# Altium schematic symbol library Schematic_Diode.SchLib: 7 symbols
Pins are listed as number, name and electrical type; pins without a type are passive.

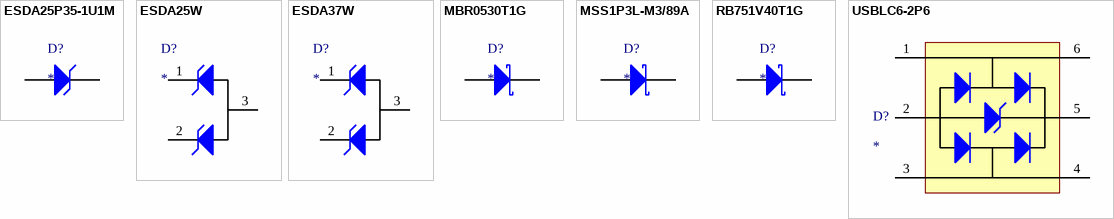
[diagram p0: symbols ESDA25P35-1U1M to USBLC6-2P6]

## ESDA25P35-1U1M
designator D?
STMICROELECTRONICS - ESDA25P35-1U1M - ESD Protection Device, Unidirectional, 41 V, QFN, 2 Pins; Number of Unidirectional Channels: 1; Reverse Standoff Voltage: 22V; Min Breakdown Voltage: 23.3V; Clamping Voltage: 41V; Peak Pulse Current: 35A; Peak Pulse Power: 1.4kW; Power Line Protection: No; Supplier 1: Digi-Key; Manufacturer: STMicroelectronics; Manufacturer Part Number: ESDA25P35-1U1M; RoHS: No; Category: TVS Diodes; Stock 1: 4234; Pricing 1: 1=0.45000, 10=0.36200, 25=0.33120, 100=0.20790, 250=0.20560, 500=0.19250, 1000=0.13090, 2500=0.12551 (USD); Mount: Surface Mount; Case/Package: 1610; Number of Pins: 2; Min Operating Temperature: -55°C; Max Operating Temperature: 150°C; Composition: Zener; Packaging: Tape and Reel; ComponentLink1URL: http://www.farnell.com/datasheets/2236209.pdf?src-supplier=Farnell; ComponentLink1Description: http://www.farnell.com/datasheets/2236209.pdf?src-supplier=Farnell; ComponentLink2URL: http://www.st.com/content/ccc/resource/technical/document/datasheet/group3/e4/43/53/b9/4e/8a/40/bb/DM00312034/files/DM00312034.pdf/jcr:content/translations/en.DM00312034.pdf?src-supplier=Digi-Key; ComponentLink2Description: http://www.st.com/content/ccc/resource/technical/document/datasheet/group3/e4/43/53/b9/4e/8a/40/bb/DM00312034/files/DM00312034.pdf/jcr:content/translations/en.DM00312034.pdf?src-supplier=Digi-Key; ComponentLink3URL: http://www.farnell.com/datasheets/2236209.pdf?src-supplier=Element14; ComponentLink3Description: http://www.farnell.com/datasheets/2236209.pdf?src-supplier=Element14; ComponentLink4URL: http://www.farnell.com/datasheets/2236209.pdf?src-supplier=Newark; ComponentLink4Description: http://www.farnell.com/datasheets/2236209.pdf?src-supplier=Newark
footprint DFN105P160X60-2N (DFN, 2-Leads, Body 1.00x1.60mm, Pitch 1.05mm, IPC Medium Density)
pins: 1 K, 2 A

## ESDA25W
designator D?
STMICROELECTRONICS - ESDA25W - ESD Protection Device, Array, SOT-323, 3 Pins, 1.2 V, 400 W, ESDA2 Series; Working Voltage: 24V; Direction: Unidirectional; Number of Channels: 2; Min Breakdown Voltage: 25V; Peak Pulse Power: 400W; Power Line Protection: No; Leakage Current: 1uA; ESD Protection: Yes; Test Current: 1mA; Max Breakdown Voltage: 30V; Element Configuration: Common Anode; Capacitance: 65pF; Operating Supply Voltage: 1.2V; Supplier 1: Digi-Key; Manufacturer: STMicroelectronics; Manufacturer Part Number: ESDA25W; RoHS: Yes; Category: Integrated Circuits (ICs); Pricing 1: 1=0.40000, 10=0.32600, 25=0.29800, 100=0.18710, 250=0.18504, 500=0.17326, 1000=0.11781 (USD); Mount: Surface Mount; Case/Package: SOT-323; Number of Pins: 3; Min Operating Temperature: -40°C; Max Operating Temperature: 125°C; Composition: Zener; Number of Unidirectional Channels: 2; Reverse Standoff Voltage: 24V; Polarity: Unidirectional; Breakdown Voltage: 25V; Termination: SMD/SMT; Max Reverse Leakage Current: 1uA; Voltage Rating (DC): 25V; Package Quantity: 1; Packaging: Tape and Reel; Number of Elements: 2; Reverse Breakdown Voltage: 25V; Max Power Dissipation: 400W; Length: 2mm; Height: 1.1mm; Depth: 1.25mm; Width: 1.25mm; Radiation Hardening: No; Lead Free: Lead Free; REACH SVHC: No SVHC; ComponentLink1URL: https://datasheet.ciiva.com/15143/getdatasheetpartid-144665-15143734.pdf?src-supplier=Verical; ComponentLink1Description: https://datasheet.ciiva.com/15143/getdatasheetpartid-144665-15143734.pdf?src-supplier=Verical; ComponentLink2URL: https://datasheet.ciiva.com/16216/cd00064033-16216903.pdf?src-supplier=Future+Electronics; ComponentLink2Description: https://datasheet.ciiva.com/16216/cd00064033-16216903.pdf?src-supplier=Future+Electronics; ComponentLink3URL: https://datasheet.ciiva.com/26787/esda25w-26787589.pdf?src-supplier=IIIC; ComponentLink3Description: https://datasheet.ciiva.com/26787/esda25w-26787589.pdf?src-supplier=IIIC; ComponentLink4URL: https://datasheet.ciiva.com/338/cd00064033-338272.pdf?src-supplier=Digi-Key; ComponentLink4Description: https://datasheet.ciiva.com/338/cd00064033-338272.pdf?src-supplier=Digi-Key; ComponentLink5URL: https://datasheet.ciiva.com/338/cd00064033-338273.pdf?src-supplier=Digi-Key; ComponentLink5Description: https://datasheet.ciiva.com/338/cd00064033-338273.pdf?src-supplier=Digi-Key; ComponentLink6URL: https://datasheet.ciiva.com/4510/cd00064033-4510575.pdf?src-supplier=Mouser; ComponentLink6Description: https://datasheet.ciiva.com/4510/cd00064033-4510575.pdf?src-supplier=Mouser; ComponentLink7URL: https://datasheet.ciiva.com/28474/1671027-28474846.pdf?src-supplier=Element14; ComponentLink7Description: https://datasheet.ciiva.com/28474/1671027-28474846.pdf?src-supplier=Element14; ComponentLink8URL: https://datasheet.ciiva.com/338/cd00064033-338271.pdf?src-supplier=Digi-Key; ComponentLink8Description: https://datasheet.ciiva.com/338/cd00064033-338271.pdf?src-supplier=Digi-Key
footprint SOT65P210X110-3N (SOT23, 3-Leads, Body 2.00x2.10mm, Pitch 0.65mm, IPC Medium Density)
pins: 1 K1 "Diode 1", 2 K2 "Diode 2", 3 A "common anode"

## ESDA37W
designator D?
STMICROELECTRONICS - ESDA37W - ESD PROTECTION DIODE, SOT-323; Supplier 1: Digi-Key; Manufacturer: STMicroelectronics; Manufacturer Part Number: ESDA37W; RoHS: No; Stock 1: 12640; Pricing 1: 1=0.47000, 10=0.35200, 25=0.30800, 100=0.16720, 250=0.16632, 500=0.13640, 1000=0.10120 (USD); ComponentLink1URL: http://www.farnell.com/datasheets/2719482.pdf?src-supplier=Farnell; ComponentLink1Description: http://www.farnell.com/datasheets/2719482.pdf?src-supplier=Farnell; ComponentLink2URL: http://www.st.com/resource/en/datasheet/esda37w.pdf?src-supplier=Digi-Key; ComponentLink2Description: http://www.st.com/resource/en/datasheet/esda37w.pdf?src-supplier=Digi-Key; ComponentLink3URL: http://www.farnell.com/datasheets/2719482.pdf?src-supplier=Newark; ComponentLink3Description: http://www.farnell.com/datasheets/2719482.pdf?src-supplier=Newark
footprint SOT65P210X110-3N (SOT23, 3-Leads, Body 2.00x2.10mm, Pitch 0.65mm, IPC Medium Density)
pins: 1 K1 "Diode 1", 2 K2 "Diode 2", 3 A "common anode"

## MBR0530T1G
designator D?
Diode, Schottky Barrier, Vr 30V, If 0.5A, Pkg SOD-123, Vf 0.43V, Tj +125degc, Cs 5.5A; Manufacturer: onsemi; Manufacturer Part Number: MBR0530T1G; Forward Current: 500mA; Max Reverse Leakage Current: 130uA; Forward Voltage: 430mV; Polarity: Standard; Supplier 1: Digikey; RoHS: Yes; Category: Schottky Diodes; Stock 1: 129549; Pricing 1: 1=0.17, 10=0.135, 100=0.1133, 500=0.09364, 1000=0.08299, 3000=0.0606, 6000=0.056, 9000=0.0476, 15000=0.04681, 21000=0.04664, 30000=0.04597, 75000=0.04559, 150000=0.04261 (USD); Mounting Technology: Surface Mount; Case/Package: SOD; Pins: 2; Min Operating Temperature: -65°C; Max Operating Temperature: 125°C; Max Repetitive Reverse Voltage (Vrrm): 30V; Voltage: 30V; Package Quantity: 3000; Packaging: Tape and Reel; Max Reverse Voltage (DC): 30V; Average Rectified Current: 500mA; Max Surge Current: 5.5A; Max Forward Surge Current (Ifsm): 5.5A; Max Reverse Current: 130uA; Peak Non-Repetitive Surge Current: 5.5A; Series: -; Breakdown Voltage: 30V; Current Rating: 500mA; Voltage Rating (DC): 30V; Length: 2.69mm; Width: 1.6mm; Height: 1.12mm; Radiation Hardening: No; RoHS Compliant: Yes; Reach SVHC Compliant: No; Lead Free: Lead Free; ComponentLink1URL: https://datasheet.ciiva.com/5763/85890-5763210.pdf?src-supplier=Farnell; ComponentLink1Description: https://datasheet.ciiva.com/5763/85890-5763210.pdf?src-supplier=Farnell; ComponentLink2URL: https://datasheet.ciiva.com/14168/sz600926-e-14168053.pdf?src-supplier=Distrelec; ComponentLink2Description: https://datasheet.ciiva.com/14168/sz600926-e-14168053.pdf?src-supplier=Distrelec; ComponentLink3URL: https://datasheet.ciiva.com/22659/1708258-22659024.pdf?src-supplier=Element14; ComponentLink3Description: https://datasheet.ciiva.com/22659/1708258-22659024.pdf?src-supplier=Element14; ComponentLink4URL: https://datasheet.ciiva.com/7962/85890-7962702.pdf?src-supplier=Element14; ComponentLink4Description: https://datasheet.ciiva.com/7962/85890-7962702.pdf?src-supplier=Element14; ComponentLink5URL: https://datasheet.ciiva.com/7962/85890-7962700.pdf?src-supplier=Element14; ComponentLink5Description: https://datasheet.ciiva.com/7962/85890-7962700.pdf?src-supplier=Element14; ComponentLink6URL: https://datasheet.ciiva.com/7962/85890-7962701.pdf?src-supplier=Element14; ComponentLink6Description: https://datasheet.ciiva.com/7962/85890-7962701.pdf?src-supplier=Element14; ComponentLink7URL: https://datasheet.ciiva.com/14560/70099496-14560951.pdf?src-supplier=Allied+Electronics; ComponentLink7Description: https://datasheet.ciiva.com/14560/70099496-14560951.pdf?src-supplier=Allied+Electronics; ComponentLink8URL: https://datasheet.ciiva.com/8300/mbr0530t1-d-8300038.pdf?src-supplier=Avnet; ComponentLink8Description: https://datasheet.ciiva.com/8300/mbr0530t1-d-8300038.pdf?src-supplier=Avnet
footprint SODFL371X135-2N (SODFL, 2-Leads, Body 1.60x3.71mm, IPC Medium Density)
pins: 1 K, 2 A

## MSS1P3L-M3/89A
designator D?
DIODE SCHOTTKY 30V 1A MICROSMP; Manufacturer: Vishay Semiconductors; Manufacturer Part Number: MSS1P3L-M3/89A; Forward Voltage: 500mV; Element Configuration: Single; Peak Non-Repetitive Surge Current: 25A; Peak Reverse Current: 250uA; Supplier 1: Digi-Key; Stock 1: 323215; Pricing 1: 1=0.41000, 10=0.30700, 100=0.14600, 500=0.11910, 1000=0.08837 (USD); RoHS: Yes; Mount: Surface Mount; Number of Pins: 2; Min Operating Temperature: -55°C; Max Operating Temperature: 150°C; Packaging: Tape and Reel; Forward Current: 1A; Average Rectified Current: 1A; Max Repetitive Reverse Voltage (Vrrm): 30V; Max Reverse Voltage (DC): 30V; Max Surge Current: 25A; Package Quantity: 1; Max Reverse Leakage Current: 250uA; Max Forward Surge Current (Ifsm): 25A; Length: 0.09inch; Height: 0.018inch; Width: 0.055inch; Radiation Hardening: No; REACH SVHC: Unknown; Lead Free: Lead Free; ComponentLink1URL: https://datasheet.ciiva.com/23642/mss1p3l-23642464.pdf?src-supplier=Newark; ComponentLink1Description: https://datasheet.ciiva.com/23642/mss1p3l-23642464.pdf?src-supplier=Newark; ComponentLink2URL: https://datasheet.ciiva.com/917/mss1p3l-917251.pdf?src-supplier=Digi-Key; ComponentLink2Description: https://datasheet.ciiva.com/917/mss1p3l-917251.pdf?src-supplier=Digi-Key; ComponentLink3URL: https://datasheet.ciiva.com/917/mss1p3l-917252.pdf?src-supplier=Digi-Key; ComponentLink3Description: https://datasheet.ciiva.com/917/mss1p3l-917252.pdf?src-supplier=Digi-Key; ComponentLink4URL: https://datasheet.ciiva.com/917/mss1p3l-917253.pdf?src-supplier=Digi-Key; ComponentLink4Description: https://datasheet.ciiva.com/917/mss1p3l-917253.pdf?src-supplier=Digi-Key; ComponentLink5URL: https://datasheet.ciiva.com/25934/mss1p3l-25934805.pdf?src-supplier=Avnet+Europe; ComponentLink5Description: https://datasheet.ciiva.com/25934/mss1p3l-25934805.pdf?src-supplier=Avnet+Europe; ComponentLink6URL: https://datasheet.ciiva.com/16464/mss1p3l-16464118.pdf?src-supplier=Future+Electronics; ComponentLink6Description: https://datasheet.ciiva.com/16464/mss1p3l-16464118.pdf?src-supplier=Future+Electronics; ComponentLink7URL: https://datasheet.ciiva.com/8290/mss1p3l-8290391.pdf?src-supplier=Avnet; ComponentLink7Description: https://datasheet.ciiva.com/8290/mss1p3l-8290391.pdf?src-supplier=Avnet; ComponentLink8URL: https://datasheet.ciiva.com/7962/mss1p3l-7962344.pdf?src-supplier=Element14; ComponentLink8Description: https://datasheet.ciiva.com/7962/mss1p3l-7962344.pdf?src-supplier=Element14
footprint DO-219AD (DIODE SCHOTTKY 30V 1A MICROSMP)
pins: 1 A, 2 K

## RB751V40T1G
designator D?
Diode Schottky 40V 0.03A 2-Pin SOD-323 T/R - Product that comes on tape, but is not reeled; Manufacturer: onsemi; Manufacturer Part Number: RB751V40T1G; Forward Current: 30mA; Max Reverse Current: 500nA; Forward Voltage: 370mV; Max Repetitive Reverse Voltage (Vrrm): 30V; Max Forward Surge Current (Ifsm): 500mA; Polarity: Standard; Value: 2pF; Power Dissipation: 200mW; Element Configuration: Single; Supplier 1: Digikey; RoHS: Yes; Category: Schottky Diodes; Stock 1: 107053; Pricing 1: 1=0.12, 10=0.08, 100=0.0663, 500=0.0482, 1000=0.04232, 3000=0.02323, 6000=0.02, 9000=0.01927, 15000=0.01914, 21000=0.01906, 30000=0.01898, 300000=0.01845 (USD); Case/Package: SOD-323-2; Pins: 2; Min Operating Temperature: -55°C; Max Operating Temperature: 150°C; Packaging: Tape and Reel; Package Quantity: 3000; Average Rectified Current: 30mA; Voltage Rating (DC): 40V; Current Rating: 30mA; Output Current: 30mA; Max Reverse Voltage (DC): 30V; Series: -; Max Surge Current: 500mA; Max Reverse Leakage Current: 500nA; Peak Non-Repetitive Surge Current: 500mA; Breakdown Voltage: 30V; Reverse Voltage: 30V; Length: 1.7mm; Width: 1.25mm; Height: 0.9mm; Radiation Hardening: No; Lead Free: Lead Free; Reach SVHC Compliant: No; RoHS Compliant: Yes; ComponentLink1URL: https://datasheet.ciiva.com/8053/rb751v40t1-d-8053696.pdf?src-supplier=Element14; ComponentLink1Description: https://datasheet.ciiva.com/8053/rb751v40t1-d-8053696.pdf?src-supplier=Element14; ComponentLink2URL: https://datasheet.ciiva.com/15144/getdatasheetpartid-87198-15144606.pdf?src-supplier=Verical; ComponentLink2Description: https://datasheet.ciiva.com/15144/getdatasheetpartid-87198-15144606.pdf?src-supplier=Verical; ComponentLink3URL: https://datasheet.ciiva.com/8053/rb751v40t1-d-8053695.pdf?src-supplier=Element14; ComponentLink3Description: https://datasheet.ciiva.com/8053/rb751v40t1-d-8053695.pdf?src-supplier=Element14; ComponentLink4URL: https://datasheet.ciiva.com/8292/rb751v40t1-d-8292413.pdf?src-supplier=Avnet; ComponentLink4Description: https://datasheet.ciiva.com/8292/rb751v40t1-d-8292413.pdf?src-supplier=Avnet; ComponentLink5URL: https://datasheet.ciiva.com/16481/rb751v40t1-d-16481045.pdf?src-supplier=Future+Electronics; ComponentLink5Description: https://datasheet.ciiva.com/16481/rb751v40t1-d-16481045.pdf?src-supplier=Future+Electronics
footprint DIOM2512X10N (Molded Diode, 2-Leads, Body 2.50x1.25mm, IPC Medium Density)
pins: 1 K, 2 A

## USBLC6-2P6
designator D?
ESD Suppressors / TVS Diodes High Speed Interface Protection Low Cap; Manufacturer: STMicroelectronics; Manufacturer Part Number: USBLC6-2P6; Breakdown Voltage: 6V; Value: 2.5pF; Clamping Voltage: 17V; Direction: Unidirectional; Element Configuration: Dual; ESD Protection: Yes; Forward Voltage: 1.1V; Leakage Current: 150nA; Max Junction Temperature (Tj): 125°C; Max Repetitive Reverse Voltage (Vrrm): 5.25V; Number of Bidirectional Channels: 2; Number of Elements: 1; Peak Pulse Current: 5A; Reverse Standoff Voltage: 5V; Test Current: 1mA; Supplier 1: DigiKey; RoHS: Compliant; Category: TVS Diodes; Stock 1: 132285; Pricing 1: 1=0.51, 10=0.323, 100=0.202, 500=0.158, 1000=0.143, 3000=0.11, 6000=0.098 (USD); Case/Package: SOT-666; China RoHS: Compliant; Contact Plating: Tin; Depth: 1.3mm; Height: 600µm; Lead Free: Lead Free; Length: 1.7mm; Lifecycle Status: Production; Max Breakdown Voltage: 6V; Max Operating Temperature: 125°C; Max Reverse Leakage Current: 150nA; Min Breakdown Voltage: 6V; Min Operating Temperature: -40°C; Mounting Technology: Surface Mount; Number of Channels: 2; Pins: 6; Number of Terminals: 6; Peak Reverse Current: 150nA; Polarity: Unidirectional; Power Line Protection: Yes; Radiation Hardening: No; REACH SVHC: Yes; Reverse Breakdown Voltage: 6V; Schedule B: 8536300000, 8536300000|8536300000|8536300000|8536300000|8536300000; Termination: SMD/SMT; Width: 1.3mm; Working Voltage: 5V; ComponentLink1URL: https://datasheet.octopart.com:443/USBLC6-2P6-STMicroelectronics-datasheet-10412581.pdf?src-supplier=element14+APAC; ComponentLink1Description: https://datasheet.octopart.com:443/USBLC6-2P6-STMicroelectronics-datasheet-10412581.pdf?src-supplier=element14+APAC; ComponentLink2URL: https://datasheet.octopart.com:443/USBLC6-2P6-STMicroelectronics-datasheet-525477.pdf?src-supplier=Factory+Futures; ComponentLink2Description: https://datasheet.octopart.com:443/USBLC6-2P6-STMicroelectronics-datasheet-525477.pdf?src-supplier=Factory+Futures; ComponentLink3URL: https://datasheet.octopart.com:443/USBLC6-2P6-STMicroelectronics-datasheet-181961833.pdf?src-supplier=Newark; ComponentLink3Description: https://datasheet.octopart.com:443/USBLC6-2P6-STMicroelectronics-datasheet-181961833.pdf?src-supplier=Newark; ComponentLink4URL: https://datasheet.octopart.com:443/USBLC6-2P6-STMicroelectronics-datasheet-46285.pdf?src-supplier=Farnell; ComponentLink4Description: https://datasheet.octopart.com:443/USBLC6-2P6-STMicroelectronics-datasheet-46285.pdf?src-supplier=Farnell; ComponentLink5URL: https://datasheet.octopart.com:443/USBLC6-2P6-STMicroelectronics-datasheet-14050643.pdf?src-supplier=iiiC; ComponentLink5Description: https://datasheet.octopart.com:443/USBLC6-2P6-STMicroelectronics-datasheet-14050643.pdf?src-supplier=iiiC; ComponentLink6URL: https://datasheet.octopart.com:443/USBLC6-2P6-STMicroelectronics-datasheet-7828165.pdf?src-supplier=Jameco; ComponentLink6Description: https://datasheet.octopart.com:443/USBLC6-2P6-STMicroelectronics-datasheet-7828165.pdf?src-supplier=Jameco
footprint SOTFL50P160X62-6N (SOTFL, 6-Leads, Body 1.60x1.60mm, Pitch 0.50mm, IPC Medium Density)
pins: 1 I/O1 "Diode 1", 2 GND (power) "Diode 1", 3 I/O2, 4 I/O2, 5 VBUS (power) "Diode 1", 6 I/O1 "Diode 1"